# Altium schematic symbol library LTC6263IMS_Lib.SchLib: 1 symbol
Pins are listed as number, name and electrical type; pins without a type are passive.

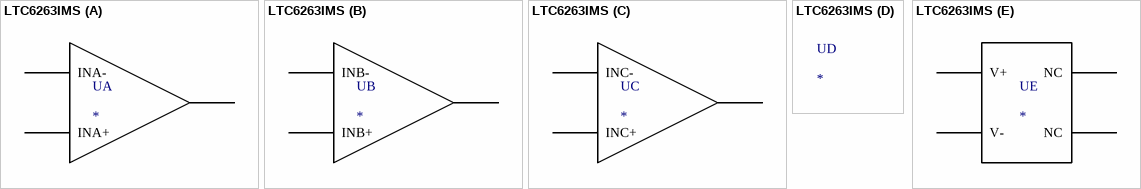
[diagram p0: symbol LTC6263IMS]

## LTC6263IMS
designator U
part A pins: 0 INA-, 2 OUTA, INA- INA+
part B pins: 0 INB-, 2 OUTB, ? INB+
part C pins: 0 INC-, 2 OUTC, INA- INC+
part E pins: NC, NC, V+, V-